# Altium schematic symbol library Schlib1.SchLib: 3 symbols
Pins are listed as number, name and electrical type; pins without a type are passive.

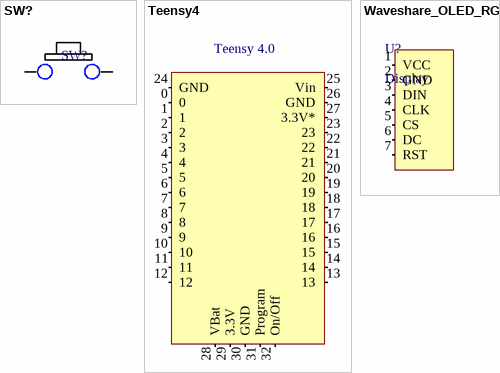
[diagram p0: symbols SW? to Waveshare_OLED_RGB]

## SW?
designator SW?  (value not drawn)
pins: 1 10, 2 11

## Teensy4
designator Teensy4, comment Teensy 4  (value not drawn)
Parameter 1: TEST
pins: 0, 1, 2, 3, 4, 5, 6, 7, 8, 9, 10, 11, 12, 13, 14, 15, 16, 17, 18, 19, 20, 21, 22, 23 (oc), 24 GND (power), 25 Vin (power), 26 GND (power), 27 3.3V* (power), 28 VBat (power), 29 3.3V (power), 30 GND (power), 31 Program, 32 On/Off
text: Teensy 4.0

## Waveshare_OLED_RGB
designator U?, comment Display
pins: 1 VCC, 2 GND, 3 DIN, 4 CLK, 5 CS, 6 DC, 7 RST